# Altium footprint library Test Point and Jumper.PcbLib: 34 footprints (part 3 of 3)
Each footprint in its own frame and in the unit in brackets; x right, y up, seen from the top. Pads: shape width x height; smd on the part's side, far side on the other; paste and mask are expansions set on the pad; w line width, h text height; cw(c..) or ccw(c..) is an arc to the next point about the centre after c.
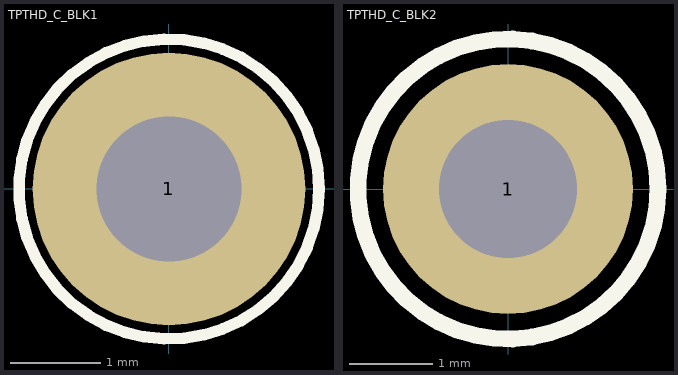
[diagram p2: the footprints below, top view; thin cyan lines are the x and y axes]

## TPTHD_C_BLK1 [mm] "Thru-hole test point loop"
height 8.1
pads (1):
  round 3 hole 1.6: 1(0,0)
Top Overlay:
  circle w0.127: c0,0 r1.651
Mechanical 13:
  circle w0.076: c0,0 r0.76
3D body "TestPoint_Multi.stp": height 8.09, standoff -3.21, extent -1.597,-1.6 1.597,1.587

## TPTHD_C_BLK2 [mm] "Thru-hole test point loop"
pads (1):
  round 3 hole 1.651: 1(0,0)
Top Overlay:
  circle w0.2: c0,0 r1.8
3D body "User Library-testpoint.step": height 5.65, standoff -3.23, extent -1.587,-1.585 1.588,1.59